# EAGLE library part 82C59A (library micro-harris)
MICROCONTROLLER/MEMORY DEVICE
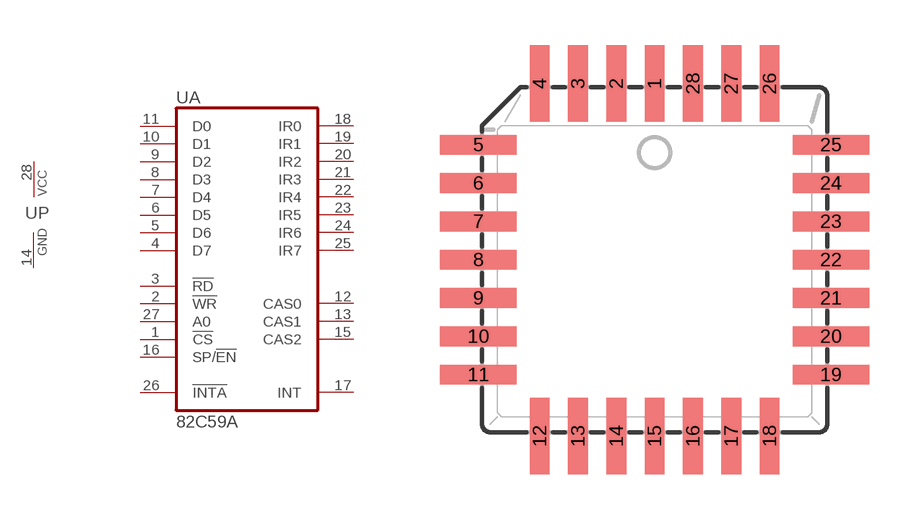
[diagram p24: symbol with the pads of PLCC28; footprint PLCC28]

Designator prefix U; gates A=82C59A P=PWRN

## 82C59A (MF: INTERSIL; MPN: IS82C59A; OC_FARNELL: unknown; OC_NEWARK: 05B7426)  [PLCC28]
1  A:!CS  in
2  A:!WR  in
3  A:!RD  in
4  A:D7
5  A:D6
6  A:D5
7  A:D4
8  A:D3
9  A:D2
10  A:D1
11  A:D0
12  A:CAS0
13  A:CAS1
14  P:GND  pwr
15  A:CAS2
16  A:SP/!EN
17  A:INT  out
18  A:IR0  in
19  A:IR1  in
20  A:IR2  in
21  A:IR3  in
22  A:IR4  in
23  A:IR5  in
24  A:IR6  in
25  A:IR7  in
26  A:!INTA  in
27  A:A0  in
28  P:VCC  pwr

## Footprint PLCC28 (pad centres in mm)
PLASTIC LEADED CHIP CARRIER square
smd 0.66 x 2.54: 1 0,5.842; 2 -1.27,5.842; 3 -2.54,5.842; 4 -3.81,5.842; 12 -3.81,-5.842; 13 -2.54,-5.842; 14 -1.27,-5.842; 15 0,-5.842; 16 1.27,-5.842; 17 2.54,-5.842; 18 3.81,-5.842; 26 3.81,5.842; 27 2.54,5.842; 28 1.27,5.842
smd 2.54 x 0.66: 5 -5.842,3.81; 6 -5.842,2.54; 7 -5.842,1.27; 8 -5.842,0; 9 -5.842,-1.27; 10 -5.842,-2.54; 11 -5.842,-3.81; 19 5.842,-3.81; 20 5.842,-2.54; 21 5.842,-1.27; 22 5.842,0; 23 5.842,1.27; 24 5.842,2.54; 25 5.842,3.81